# Altium footprint library LaunchyRIOFootprints.PcbLib: 21 footprints (part 1 of 2)
Each footprint in its own frame and in the unit in brackets; x right, y up, seen from the top. Pads: shape width x height; smd on the part's side, far side on the other; paste and mask are expansions set on the pad; w line width, h text height; cw(c..) or ccw(c..) is an arc to the next point about the centre after c.
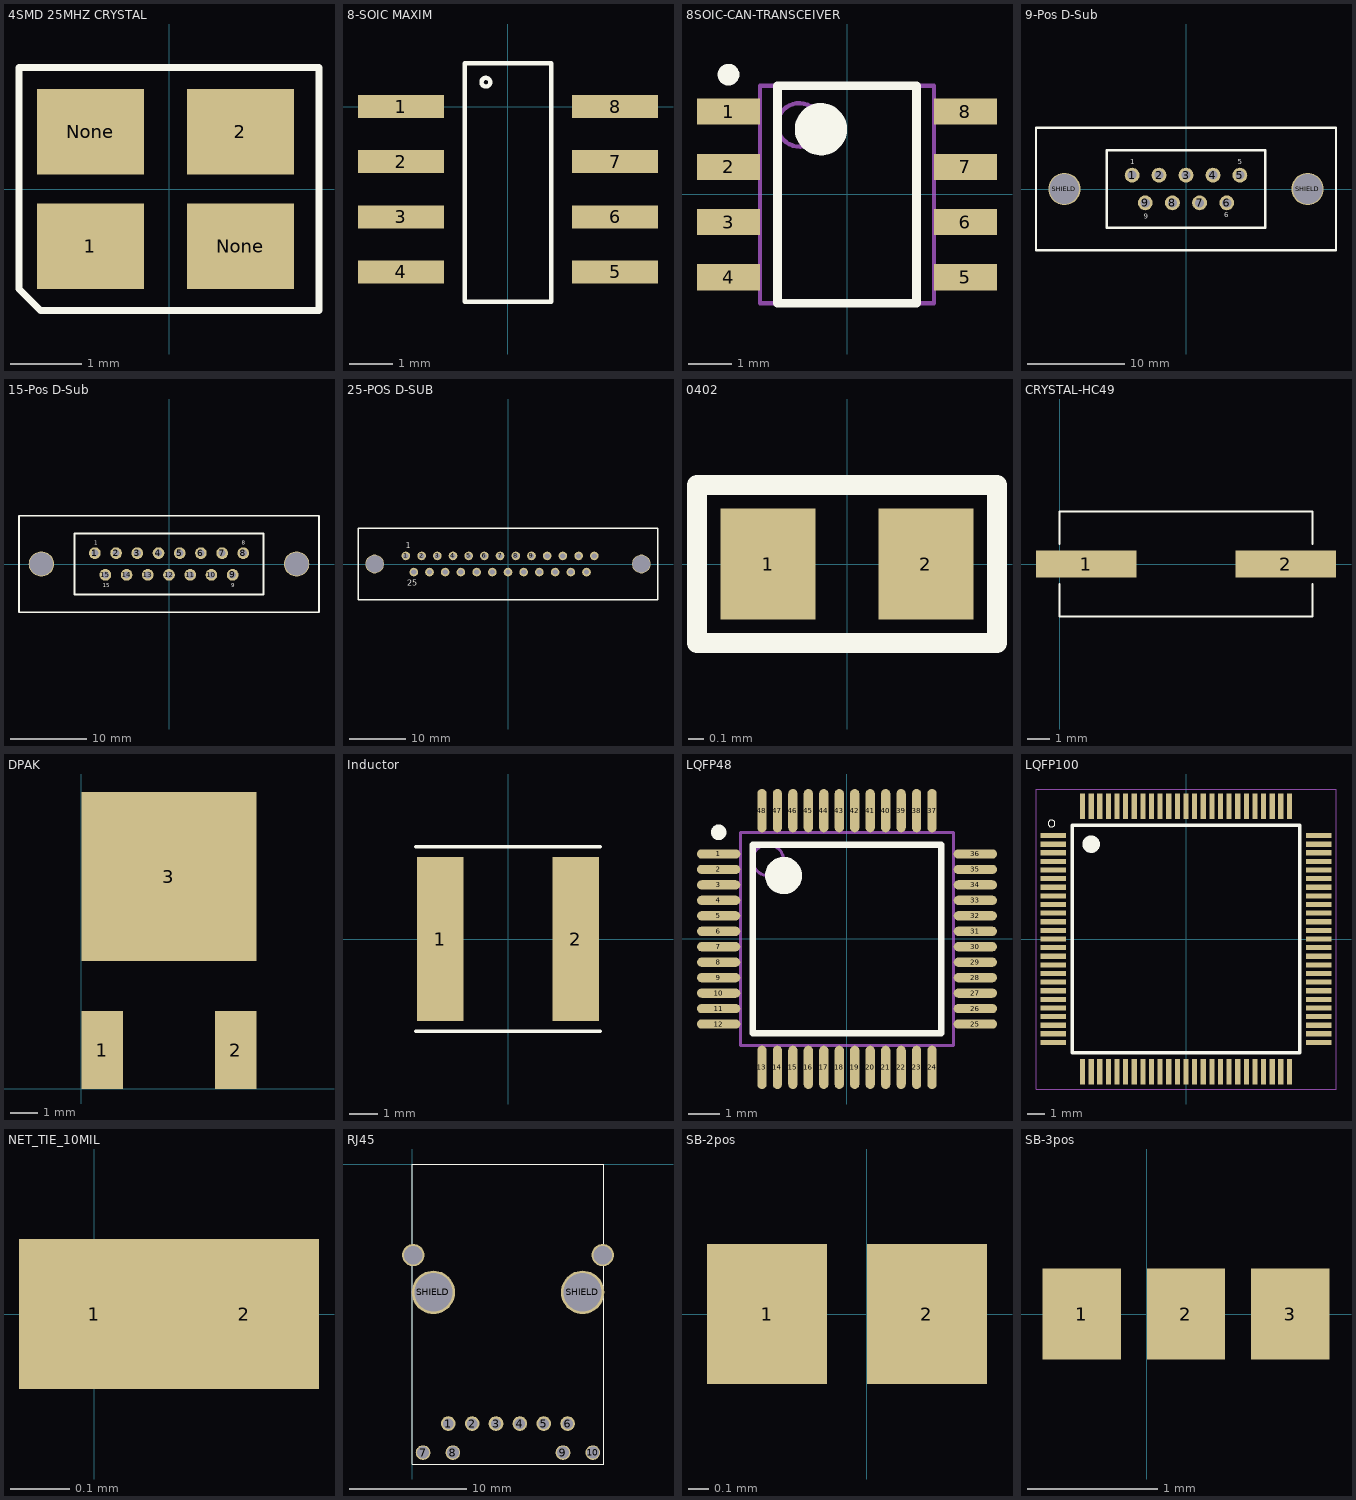
[diagram p0: the footprints below, top view; thin cyan lines are the x and y axes]

## 4SMD 25MHZ CRYSTAL [mm]
pads (4):
  rect 1.5x1.2 smd: 1(-1.1,-0.8) 2(1,0.8) None(-1.1,0.8) None(1,-0.8)
Top Overlay:
  lines w0.1: -2.1,-1.4 -2.1,1.7 2.1,1.7 2.1,-1.6 2.1,-1.7 -1.8,-1.7 -2.1,-1.4

## 8-SOIC MAXIM [mm] "Thermocouple Amplifier, Maxim Land Pattern 90-0096"
pads (8):
  rect 1.98x0.53 smd: 1(-2.465,0) 2(-2.465,-1.27) 3(-2.465,-2.54) 4(-2.465,-3.81) 5(2.465,-3.81) 6(2.465,-2.54) 7(2.465,-1.27) 8(2.465,0)
Top Overlay:
  circle w0.1: c-0.51,0.56 r0.1
  lines w0.1: -1,-4.5 -1,1 1,1 1,-4.5 -1,-4.5

## 8SOIC-CAN-TRANSCEIVER [mm] "SOIC, 8-Leads, Body 4.90x3.90mm, Pitch 1.27mm, IPC Medium Density"
height 1.75
pads (8):
  rect 1.45x0.6 smd: 1(-2.725,1.905) 2(-2.725,0.635) 3(-2.725,-0.635) 4(-2.725,-1.905) 5(2.725,-1.905) 6(2.725,-0.635) 7(2.725,0.635) 8(2.725,1.905)
Top Overlay:
  circle w0.6: c-0.6,1.5 r0.3
  circle w0.25: c-2.725,2.755 r0.125
  lines w0.2: -1.6,-2.5 1.6,-2.5 1.6,2.5 -1.6,2.5 -1.6,-2.5
Mechanical 13:
  circle w0.1: c-1.1,1.6 r0.5
  lines w0.1: -2,-2.5 2,-2.5 2,2.5 -2,2.5 -2,-2.5
3D body: height 1.75, standoff 0.1, extent -2,-2.5 2,2.5

## 9-Pos D-Sub [mil] "9-pos connector"
height 456
pads (11):
  round 60 hole 37: 1(-218,56) 2(-109,56) 3(0,56) 4(109,56) 5(218,56) 6(165,-56) 7(55,-56) 8(-55,-56) 9(-165,-56)
  round 130 hole 120 unplated: SHIELD(-492,0) SHIELD(492,0)
Top Overlay:
  lines w10: -607,-248 607,-248 607,248 -607,248 -607,-248 ; -321,-156 321,-156 321,156 -321,156 -321,-156
  text "1" at -225,100 h20
  text "5" at 210,100 h20
  text "6" at 155,-115 h20
  text "9" at -170,-120 h20
Bottom Overlay:
  text "9" at -155,-120 h20
  text "1" at -220,100 h20
  text "5" at 225,100 h20
  text "6" at 170,-115 h20

## 15-Pos D-Sub [mil] "15-pos connector"
height 456
pads (17):
  round 60 hole 37: 1(-381,56) 2(-272,56) 3(-163,56) 4(-54,56) 5(55,56) 6(164,56) 7(273,56) 8(382,56) 9(327,-56) 10(218,-56) 11(109,-56) 12(0,-56) 13(-109,-56) 14(-218,-56) 15(-327,-56)
  round 130 hole 120 unplated: SHIELD(-656,0) SHIELD(656,0)
Top Overlay:
  lines w10: -771,-248 -771,248 771,248 771,-248 -771,-248 ; -485,-156 -485,156 485,156 485,-156 -485,-156
  text "1" at -385,100 h20
  text "8" at 375,100 h20
  text "9" at 320,-120 h20
  text "15" at -340,-120 h20
Bottom Overlay:
  text "8" at 390,100 h20
  text "9" at 335,-120 h20
  text "15" at -310,-120 h20

## 25-POS D-SUB [mil]
pads (27):
  round 60 hole 37: 1(-709,56) 2(-600,56) 3(-491,56) 4(-382,56) 5(-273,56) 6(-164,56) 8(54,56) 9(163,56) 10(272,56) 11(381,56) 12(490,56) 13(599,56) 14(545,-56) 15(436,-56) 16(327,-56) 17(218,-56) 18(109,-56) 19(0,-56) 20(-109,-56) 21(-218,-56) 22(-327,-56) 23(-436,-56) 24(-545,-56) 25(-654,-56)
  round 60 hole 37 paste+0: 7(-55.33,56)
  round 130 hole 120 unplated: SHIELD(-926,0) SHIELD(926,0)
Top Overlay:
  lines w10: -1041.5,-248 1041.5,-248 1041.5,248 -1041.5,248 -1041.5,-248
  text "25" at -700,-150 h40
  text "1" at -710,110 h40

## 0402 [mm]
pads (2):
  rect 0.6x0.7 smd: 1(-0.5,0) 2(0.5,0)
Top Overlay:
  lines w0.127: -0.95,-0.5 0.95,-0.5 0.95,0.5 -0.95,0.5 -0.95,-0.5

## CRYSTAL-HC49 [mm]
pads (2):
  rect 4.5x1.2 smd: 1(1.2,0) 2(10.1,0)
Top Overlay:
  lines w0.1: 0,-0.9 0,-2.35 11.3,-2.35 11.3,-0.9 ; 0,0.9 0,2.35 11.3,2.35 11.3,0.9

## DPAK [mm]
pads (3):
  rect 1.5x2.8 smd: 1(0.75,1.4) 2(5.55,1.4)
  rect 6.3x6.1 smd: 3(3.15,7.65)

## Inductor [mm] "Non-Standard package, DigiKey PN: https://www.digikey.com/product-detail/en/taiyo-yuden/NR6028T4R7M/587-2100-1-ND/1866240"
pads (2):
  rect 1.6x5.7 smd: 1(-2.35,0) 2(2.35,0)
Top Overlay:
  lines w0.127: -3.2,-3.2 3.2,-3.2 ; -3.2,3.2 3.2,3.2

## LQFP48 [mm] "TSQFP, 48-Leads, Body 6.90x6.90mm, Pitch 0.50mm, IPC Medium Density"
height 1.6
pads (48):
  oval 1.4x0.3 smd: 1(-4.15,2.75) 2(-4.15,2.25) 3(-4.15,1.75) 4(-4.15,1.25) 5(-4.15,0.75) 6(-4.15,0.25) 7(-4.15,-0.25) 8(-4.15,-0.75) 9(-4.15,-1.25) 10(-4.15,-1.75) 11(-4.15,-2.25) 12(-4.15,-2.75) 25(4.15,-2.75) 26(4.15,-2.25) 27(4.15,-1.75) 28(4.15,-1.25) 29(4.15,-0.75) 30(4.15,-0.25) 31(4.15,0.25) 32(4.15,0.75) 33(4.15,1.25) 34(4.15,1.75) 35(4.15,2.25) 36(4.15,2.75)
  oval 0.3x1.4 smd: 13(-2.75,-4.15) 14(-2.25,-4.15) 15(-1.75,-4.15) 16(-1.25,-4.15) 17(-0.75,-4.15) 18(-0.25,-4.15) 19(0.25,-4.15) 20(0.75,-4.15) 21(1.25,-4.15) 22(1.75,-4.15) 23(2.25,-4.15) 24(2.75,-4.15) 37(2.75,4.15) 38(2.25,4.15) 39(1.75,4.15) 40(1.25,4.15) 41(0.75,4.15) 42(0.25,4.15) 43(-0.25,4.15) 44(-0.75,4.15) 45(-1.25,4.15) 46(-1.75,4.15) 47(-2.25,4.15) 48(-2.75,4.15)
Top Overlay:
  circle w0.25: c-4.15,3.45 r0.125
  circle w0.6: c-2.05,2.05 r0.3
  lines w0.2: -3.05,-3.05 -3.05,3.05 3.05,3.05 3.05,-3.05 -3.05,-3.05
Mechanical 13:
  circle w0.1: c-2.55,2.55 r0.5
  lines w0.1: -3.45,-3.45 -3.45,3.45 3.45,3.45 3.45,-3.45 -3.45,-3.45
3D body: height 1.6, standoff 0.05, extent -3.45,-3.45 3.45,3.45

## LQFP100 [mm]
pads (100):
  rect 1.5x0.3 smd: 1(-7.7,6) 2(-7.7,5.5) 3(-7.7,5) 4(-7.7,4.5) 5(-7.7,4) 6(-7.7,3.5) 7(-7.7,3) 8(-7.7,2.5) 9(-7.7,2) 10(-7.7,1.5) 11(-7.7,1) 12(-7.7,0.5) 13(-7.7,0) 14(-7.7,-0.5) 15(-7.7,-1) 16(-7.7,-1.5) 17(-7.7,-2) 18(-7.7,-2.5) 19(-7.7,-3) 20(-7.7,-3.5) 21(-7.7,-4) 22(-7.7,-4.5) 23(-7.7,-5) 24(-7.7,-5.5) 25(-7.7,-6) 51(7.7,-6) 52(7.7,-5.5) 53(7.7,-5) 54(7.7,-4.5) 55(7.7,-4) 56(7.7,-3.5) 57(7.7,-3) 58(7.7,-2.5) 59(7.7,-2) 60(7.7,-1.5) 61(7.7,-1) 62(7.7,-0.5) 63(7.7,0) 64(7.7,0.5) 65(7.7,1) 66(7.7,1.5) 67(7.7,2) 68(7.7,2.5) 69(7.7,3) 70(7.7,3.5) 71(7.7,4) 72(7.7,4.5) 73(7.7,5) 74(7.7,5.5) 75(7.7,6)
  rect 0.3x1.5 smd: 26(-6,-7.7) 27(-5.5,-7.7) 28(-5,-7.7) 29(-4.5,-7.7) 30(-4,-7.7) 31(-3.5,-7.7) 32(-3,-7.7) 33(-2.5,-7.7) 34(-2,-7.7) 35(-1.5,-7.7) 36(-1,-7.7) 37(-0.5,-7.7) 38(0,-7.7) 39(0.5,-7.7) 40(1,-7.7) 41(1.5,-7.7) 42(2,-7.7) 43(2.5,-7.7) 44(3,-7.7) 45(3.5,-7.7) 46(4,-7.7) 47(4.5,-7.7) 48(5,-7.7) 49(5.5,-7.7) 50(6,-7.7) 76(6,7.7) 77(5.5,7.7) 78(5,7.7) 79(4.5,7.7) 80(4,7.7) 81(3.5,7.7) 82(3,7.7) 83(2.5,7.7) 84(2,7.7) 85(1.5,7.7) 86(1,7.7) 87(0.5,7.7) 88(0,7.7) 89(-0.5,7.7) 90(-1,7.7) 91(-1.5,7.7) 92(-2,7.7) 93(-2.5,7.7) 94(-3,7.7) 95(-3.5,7.7) 96(-4,7.7) 97(-4.5,7.7) 98(-5,7.7) 99(-5.5,7.7) 100(-6,7.7)
Top Overlay:
  circle w0.3: c-5.5,5.5 r0.141
  circle w0.3: c-5.5,5.5 r0.361
  circle w0: c-7.8,6.7 r0.2
  lines w0.2: -6.6,-6.6 -6.6,6.6 6.6,6.6 6.6,-6.6 -6.6,-6.6
Mechanical 1:
  circle w0: c-5.5,5.5 r0.4
  lines w0.05: -8.7,-8.7 -8.7,8.7 8.7,8.7 8.7,-8.7 -8.7,-8.7

## NET_TIE_10MIL [mil]
pads (2):
  rect 10x10 smd paste+0 mask+4: 1(0,0) 2(10,0)

## RJ45 [mm] "RJ45 Ethernet Connector"
pads (14):
  round 1.25 hole 0.89: 1(3.07,-22.09) 2(5.1,-22.09) 3(7.13,-22.09) 4(9.16,-22.09) 5(11.19,-22.09) 6(13.22,-22.09)
  round 1.25 hole 1.02: 7(0.92,-24.56) 8(3.46,-24.56) 9(12.83,-24.56) 10(15.37,-24.56)
  round 1.9 hole 1.57: SHIELD(0.09,-7.75) SHIELD(16.21,-7.75)
  round 3.7 hole 3.25: SHIELD(1.8,-10.92) SHIELD(14.5,-10.92)
Top Overlay:
  lines w0.1: 0,-25.53 0,0 16.31,0 16.31,-25.53 0,-25.53

## SB-2pos [mm]
pads (2):
  rect 0.6x0.7 smd: 1(-0.5,0) 2(0.3,0)

## SB-3pos [mm]
pads (3):
  rect 0.6x0.7 smd: 1(-0.5,0) 2(0.3,0) 3(1.1,0)